# Altium schematic symbol library TCA0372DW.SchLib: 1 symbol
Pins are listed as number, name and electrical type; pins without a type are passive.

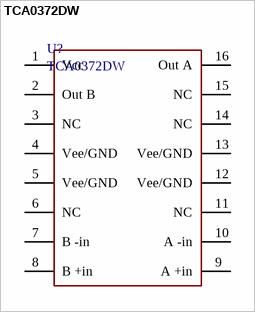
[diagram p0: symbol TCA0372DW]

## TCA0372DW
designator U?
1.0 A Output Current,  Dual Power Operational  Amplifiers
footprint SOIC-16W (SOIC, 16-Leads, Body 10,30x7,50mm, Pitch 1,27mm, IPC Medium Density)
pins: 1 Vcc "Termal Pad", 2 Out B "Termal Pad", 3 NC "Termal Pad", 4 Vee/GND "Termal Pad", 5 Vee/GND "Termal Pad", 6 NC "Termal Pad", 7 B -in "Termal Pad", 8 B +in "Termal Pad", 9 A +in "Termal Pad", 10 A -in "Termal Pad", 11 NC "Termal Pad", 12 Vee/GND "Termal Pad", 13 Vee/GND "Termal Pad", 14 NC "Termal Pad", 15 NC "Termal Pad", 16 Out A "Termal Pad"